# Altium footprint library QFN50P300X300X100-17N.PcbLib: 1 footprints
Each footprint in its own frame and in the unit in brackets; x right, y up, seen from the top. Pads: shape width x height; smd on the part's side, far side on the other; paste and mask are expansions set on the pad; w line width, h text height; cw(c..) or ccw(c..) is an arc to the next point about the centre after c.
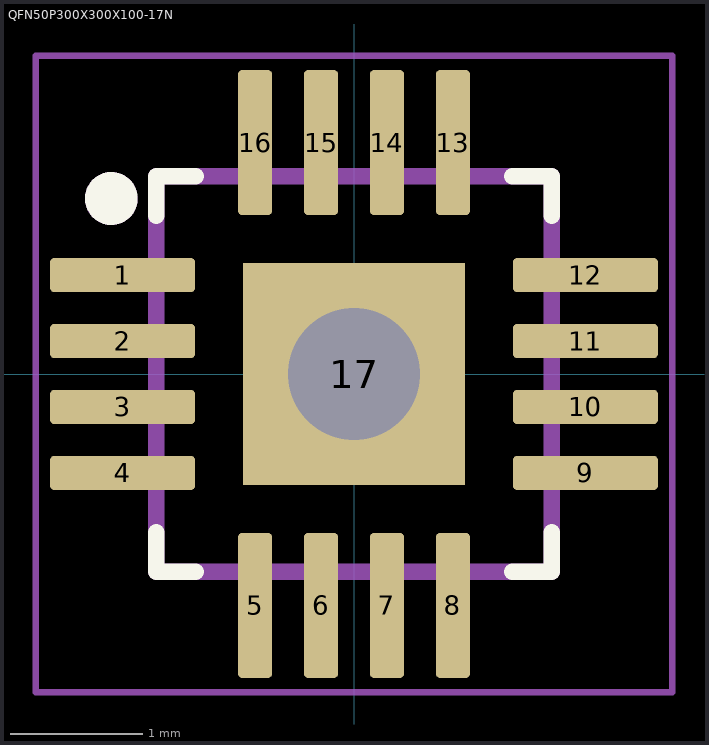
[diagram p0: the footprint, top view; thin cyan lines are the x and y axes]

## QFN50P300X300X100-17N [mm]
pads (17):
  rrect25% 1.1x0.26 smd: 1(-1.755,0.75) 2(-1.755,0.25) 3(-1.755,-0.25) 4(-1.755,-0.75) 9(1.755,-0.75) 10(1.755,-0.25) 11(1.755,0.25) 12(1.755,0.75)
  rrect25% 0.26x1.1 smd: 5(-0.75,-1.755) 6(-0.25,-1.755) 7(0.25,-1.755) 8(0.75,-1.755) 13(0.75,1.755) 14(0.25,1.755) 15(-0.25,1.755) 16(-0.75,1.755)
  rect 1.68x1.68 hole 1 paste-2539.97: 17(0,0)
Top Overlay:
  circle w0.2: c-1.84,1.331 r0.1
  lines w0.127: -1.5,-1.2 -1.5,-1.5 -1.2,-1.5 ; -1.5,1.2 -1.5,1.5 -1.2,1.5 ; 1.2,-1.5 1.5,-1.5 1.5,-1.2 ; 1.2,1.5 1.5,1.5 1.5,1.2
Mechanical 13:
  lines w0.127: -1.5,-1.5 -1.5,1.5 1.5,1.5 1.5,-1.5 -1.5,-1.5
  lines w0.2: -1.745,1.363 ccw(c-1.84,1.331) -1.74,1.331
Mechanical 15:
  lines w0.05: -2.413,-2.413 2.413,-2.413 2.413,2.413 -2.413,2.413 -2.413,-2.413
3D body "BQ24072RGTT.STEP": height 1, standoff 0, extent -1.5,-1.5 1.5,1.5